# Altium footprint library PcbLib2.PcbLib: 1 footprints
Each footprint in its own frame and in the unit in brackets; x right, y up, seen from the top. Pads: shape width x height; smd on the part's side, far side on the other; paste and mask are expansions set on the pad; w line width, h text height; cw(c..) or ccw(c..) is an arc to the next point about the centre after c.
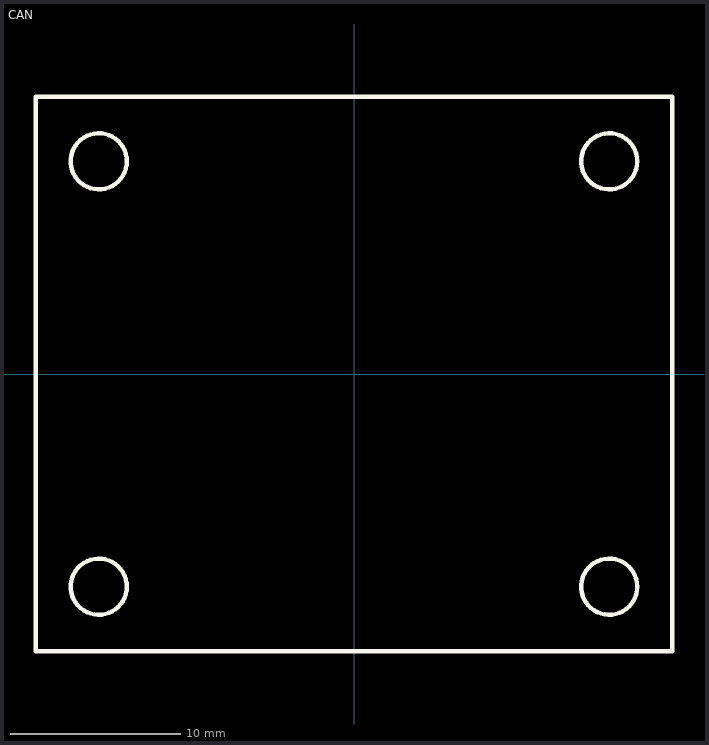
[diagram p0: the footprint, top view; thin cyan lines are the x and y axes]

## CAN [mm] "CAN for weight sensor"
Top Overlay:
  circle w0.254: c-15,12.5 r1.65
  circle w0.254: c-15,-12.5 r1.65
  circle w0.254: c15,-12.5 r1.65
  circle w0.254: c15,12.5 r1.65
  lines w0.254: -18.7,-16.3 -18.7,16.3 18.7,16.3 18.7,-16.3 -18.7,-16.3